# Altium schematic symbol library Misc_ICs.SCHLIB: 7 symbols
Pins are listed as number, name and electrical type; pins without a type are passive.

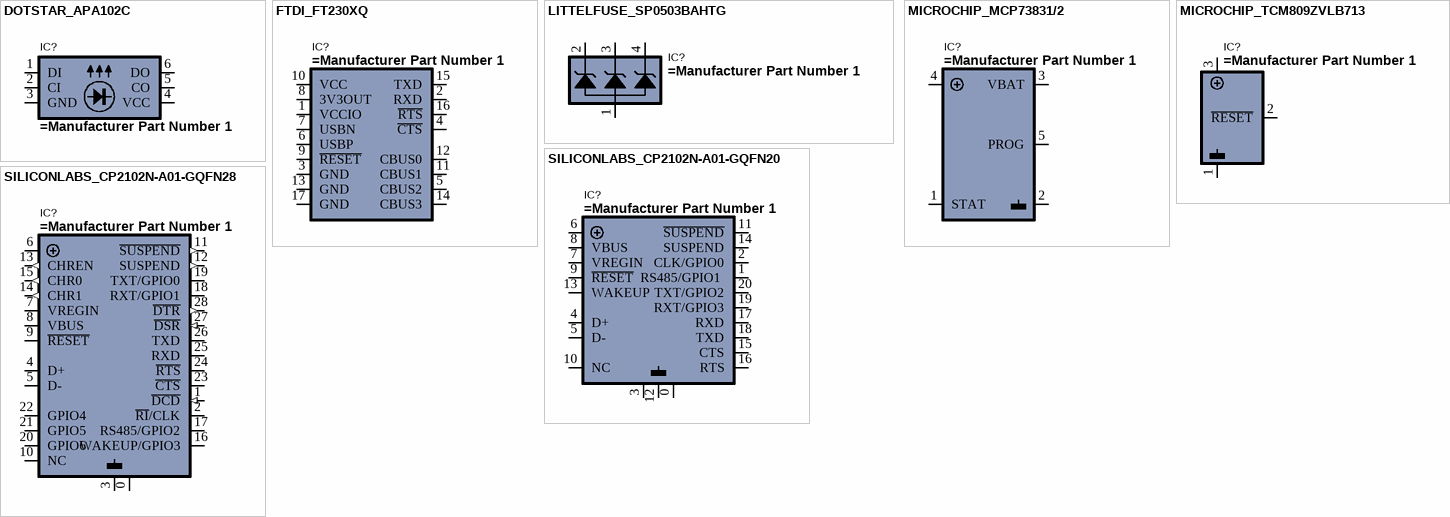
[diagram p0: symbols DOTSTAR_APA102C to SILICONLABS_CP2102N-A01-GQFN28]

## DOTSTAR_APA102C
designator IC?
pins: 1 DI, 2 CI, 3 GND, 4 VCC, 5 CO, 6 DO

## FTDI_FT230XQ
designator IC?
pins: 1 VCCIO, 2 RXD, 3 GND, 4 ~{CTS}, 5 CBUS2, 6 USBP, 7 USBN, 8 3V3OUT, 9 ~{RESET}, 10 VCC, 11 CBUS1, 12 CBUS0, 13 GND, 14 CBUS3, 15 TXD, 16 ~{RTS}, 17 GND

## LITTELFUSE_SP0503BAHTG
designator IC?
ESD Protection Device, TVS, 8 V, SOT-143, 4 Pins, 5.5 V, 225 mW
pins: 1 COM, 2, 3, 4

## MICROCHIP_MCP73831/2
designator IC?
pins: 1 STAT, 2 GND, 3 VBAT, 4 VDD, 5 PROG

## MICROCHIP_TCM809ZVLB713
designator IC?
pins: 1 GND, 2 ~{RESET}, 3 VDD, 14 NC hidden, 15 NC hidden, 16 NC hidden, 17 NC hidden, 20 NC hidden, 21 NC hidden, 22 NC hidden

## SILICONLABS_CP2102N-A01-GQFN20
designator IC?
pins: 0 GND, 1 RS485/GPIO1 , 2 CLK/GPIO0, 3 GND, 4 D+, 5 D-, 6 VDD, 7 VREGIN, 8 VBUS, 9 ~{RESET}, 10 NC, 11 ~{SUSPEND}, 12 GND, 13 WAKEUP, 14 NC hidden, 14 SUSPEND, 15 NC hidden, 15 CTS, 16 NC hidden, 16 RTS, 17 NC hidden, 17 RXD, 18 TXD, 19 RXT/GPIO3, 20 NC hidden, 20 TXT/GPIO2, 21 NC hidden, 22 NC hidden

## SILICONLABS_CP2102N-A01-GQFN28
designator IC?
pins: 0 GND, 1 ~{DCD} (in), 2 ~{RI}/CLK (io), 3 GND, 4 D+, 5 D-, 6 VDD, 7 VREGIN, 8 VBUS, 9 ~{RESET}, 10 NC, 11 ~{SUSPEND} (out), 12 SUSPEND (out), 13 CHREN (out), 14 NC hidden, 14 CHR1 (out), 15 NC hidden, 15 CHR0 (out), 16 NC hidden, 16 WAKEUP/GPIO3, 17 NC hidden, 17 RS485/GPIO2, 18 RXT/GPIO1, 19 TXT/GPIO0, 20 NC hidden, 20 GPIO6, 21 NC hidden, 21 GPIO5, 22 NC hidden, 22 GPIO4, 23 ~{CTS}, 24 ~{RTS}, 25 RXD, 26 TXD, 27 ~{DSR} (in), 28 ~{DTR} (out)